# EAGLE library part AS3935 (library Strutz Electronic Industries)
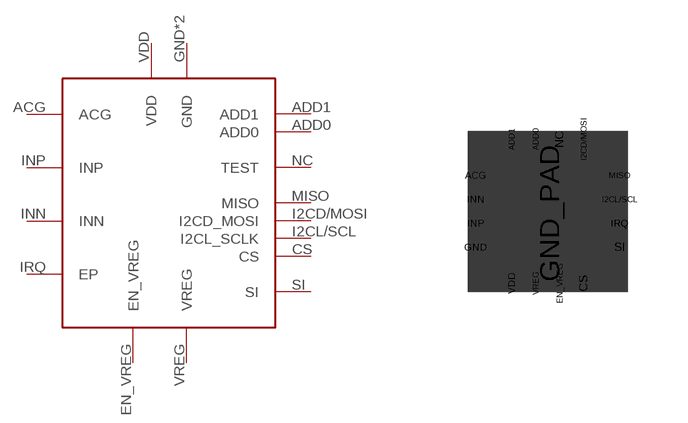
[diagram p3: symbol with the pads of AS3935; footprint AS3935]

Designator prefix -

## AS3935QFN-16  [AS3935]
ACG  ACG
ADD0  ADD0
ADD1  ADD1
CS  CS
EN_VREG  EN_VREG
GND  GND
GND_PAD  GND
I2CD/MOSI  I2CD_MOSI
I2CL/SCL  I2CL_SCLK
INN  INN
INP  INP
IRQ  EP
MISO  MISO
NC  TEST
SI  SI
VDD  VDD
VREG  VREG

## Footprint AS3935 (pad centres in mm)
smd 0.4 x 0.3: ACG -1.8,0.9; GND -1.8,-0.9; I2CL/SCL 1.8,0.3; INN -1.8,0.3; INP -1.8,-0.3; IRQ 1.8,-0.3; MISO 1.8,0.9; SI 1.8,-0.9
smd 0.3 x 0.4: ADD0 -0.3,1.8; ADD1 -0.9,1.8; CS 0.9,-1.8; EN_VREG 0.3,-1.8; I2CD/MOSI 0.9,1.8; NC 0.3,1.8; VDD -0.9,-1.8; VREG -0.3,-1.8
smd 2.6 x 2.6: GND_PAD 0.05,-0.05